# EAGLE library part ACS758* (library allegro)
Thermally Enhanced, Fully Integrated, Hall Effect-Based Linear Current Sensor with 100 micro Ohm Current Conductor display layer 49 Reference in BRD and place VIAs on circles Source: http://www.allegromicro.com/en/Products/Part_Numbers/0758/0758.pdf
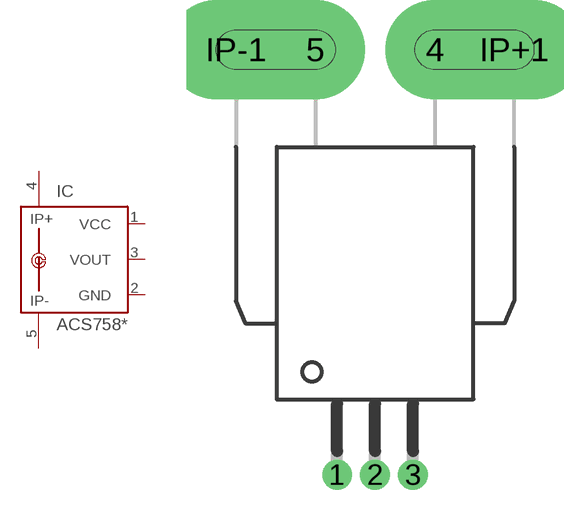
[diagram p8: symbol with the pads of CB-PFF; footprint CB-PFF]

Designator prefix IC

## ACS758ECB-200B-PFF-T (MPN: ACS758ECB-200B-PFF-T; OC_FARNELL: 1718993; OC_NEWARK: 04R7127), ACS758KCB-150B-PFF-T (MPN: ACS758KCB-150B-PFF-T; OC_FARNELL: 1718995; OC_NEWARK: 04R7129), ACS758LCB-050B-PFF-T (MPN: ACS758LCB-050B-PFF-T; OC_FARNELL: 1718997; OC_NEWARK: 04R7131), ACS758LCB-100B-PFF-T (MPN: ACS758LCB-100B-PFF-T; OC_FARNELL: 1718998; OC_NEWARK: 04R7132)  [CB-PFF]
1  VCC  pwr
2  GND  pwr
3  VOUT  out
4  IP+  pas
5  IP-  pas
IP+1  IP+1  in
IP-1  IP-1  in

## Footprint CB-PFF (pad centres in mm)
5-pin module, leadform PFF In BRD, display layer 49 Reference and place VIAs with drill = 0,5mm on circles In DRC, set Clearance same signals PAD to VIA = 0 Source: http://www.allegromicro.com/en/Products/Part_Numbers/0758/0758.pdf
drill 0.8 pad 1.5 round: 1 -1.91,-21.4; 2 0,-21.4; 3 1.91,-21.4
drill 2 pad 5 offset: 4 3,0; 5 -3,0
drill 2 pad 4 offset: IP+1 7,0; IP-1 -7,0